# Altium schematic symbol library WL-SDSB.SchLib: 2 symbols
Pins are listed as number, name and electrical type; pins without a type are passive.

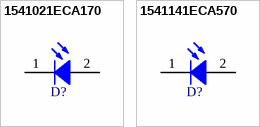
[diagram p0: symbols 1541021ECA170 to 1541141ECA570]

## 1541021ECA170
designator D?  (value not drawn)
WL-SDSB SMT Photodiode Sideview Black, size 1002, 700-1100nm, 2µA, 110°; Manufacturer: Wurth Elektronik; Case/Size Code: 1002; Dark Current Max: 10nA; Range of Spectral Bandwidth Min: 700nm; Range of Spectral Bandwidth Max: 1100nm; Wavelength of Peak Sensitivity: 940nm; ComponentLink1Description: Website Link; ComponentLink1URL: https://www.we-online.com/redexpert/article/1541021ECA170?ad; ComponentLink2Description: Datasheet Link; ComponentLink2URL: https://www.we-online.com/redexpert/spec/1541021ECA170?ad; Manufacturer Part Number: 1541021ECA170; Category: Photodiodes; Match Code: WL-SDSB; Mount: Surface Mount; Operating Temperature Max: 85°C; Operating Temperature Min: -40°C; Packaging: Tape and Reel; Length: 2.4mm; Width: 1.39mm; Height: 0.6mm; Photo Current: 2µA; Viewing Angle: 110°
footprint WL-SDSB_1002
pins: 1 K, 2 A

## 1541141ECA570
designator D?  (value not drawn)
WL-SDSB SMT Photodiode Sideview Black, size 1104, 700-1100nm, 2.5µA, 150°; Manufacturer: Wurth Elektronik; Case/Size Code: 1104; Dark Current Max: 10nA; Range of Spectral Bandwidth Min: 700nm; Range of Spectral Bandwidth Max: 1100nm; Wavelength of Peak Sensitivity: 940nm; ComponentLink1Description: Website Link; ComponentLink1URL: https://www.we-online.com/redexpert/article/1541141ECA570?ad; ComponentLink2Description: Datasheet Link; ComponentLink2URL: https://www.we-online.com/redexpert/spec/1541141ECA570?ad; Manufacturer Part Number: 1541141ECA570; Category: Photodiodes; Match Code: WL-SDSB; Mount: Surface Mount; Operating Temperature Max: 85°C; Operating Temperature Min: -40°C; Packaging: Tape and Reel; Length: 3mm; Width: 2.02mm; Height: 1mm; Photo Current: 2.5µA; Viewing Angle: 150°
footprint WL-SDSB_1104
pins: 1 K, 2 A